# EAGLE library part AT91SAM9261 (library at91SAM9261)
32-bit ARM-based Microcontrollers Ultra low-power microcontroller based on the ARM926EJ-S processor. 16K byte data cache 16K byte instruction 210 MIPS ar 190MHz
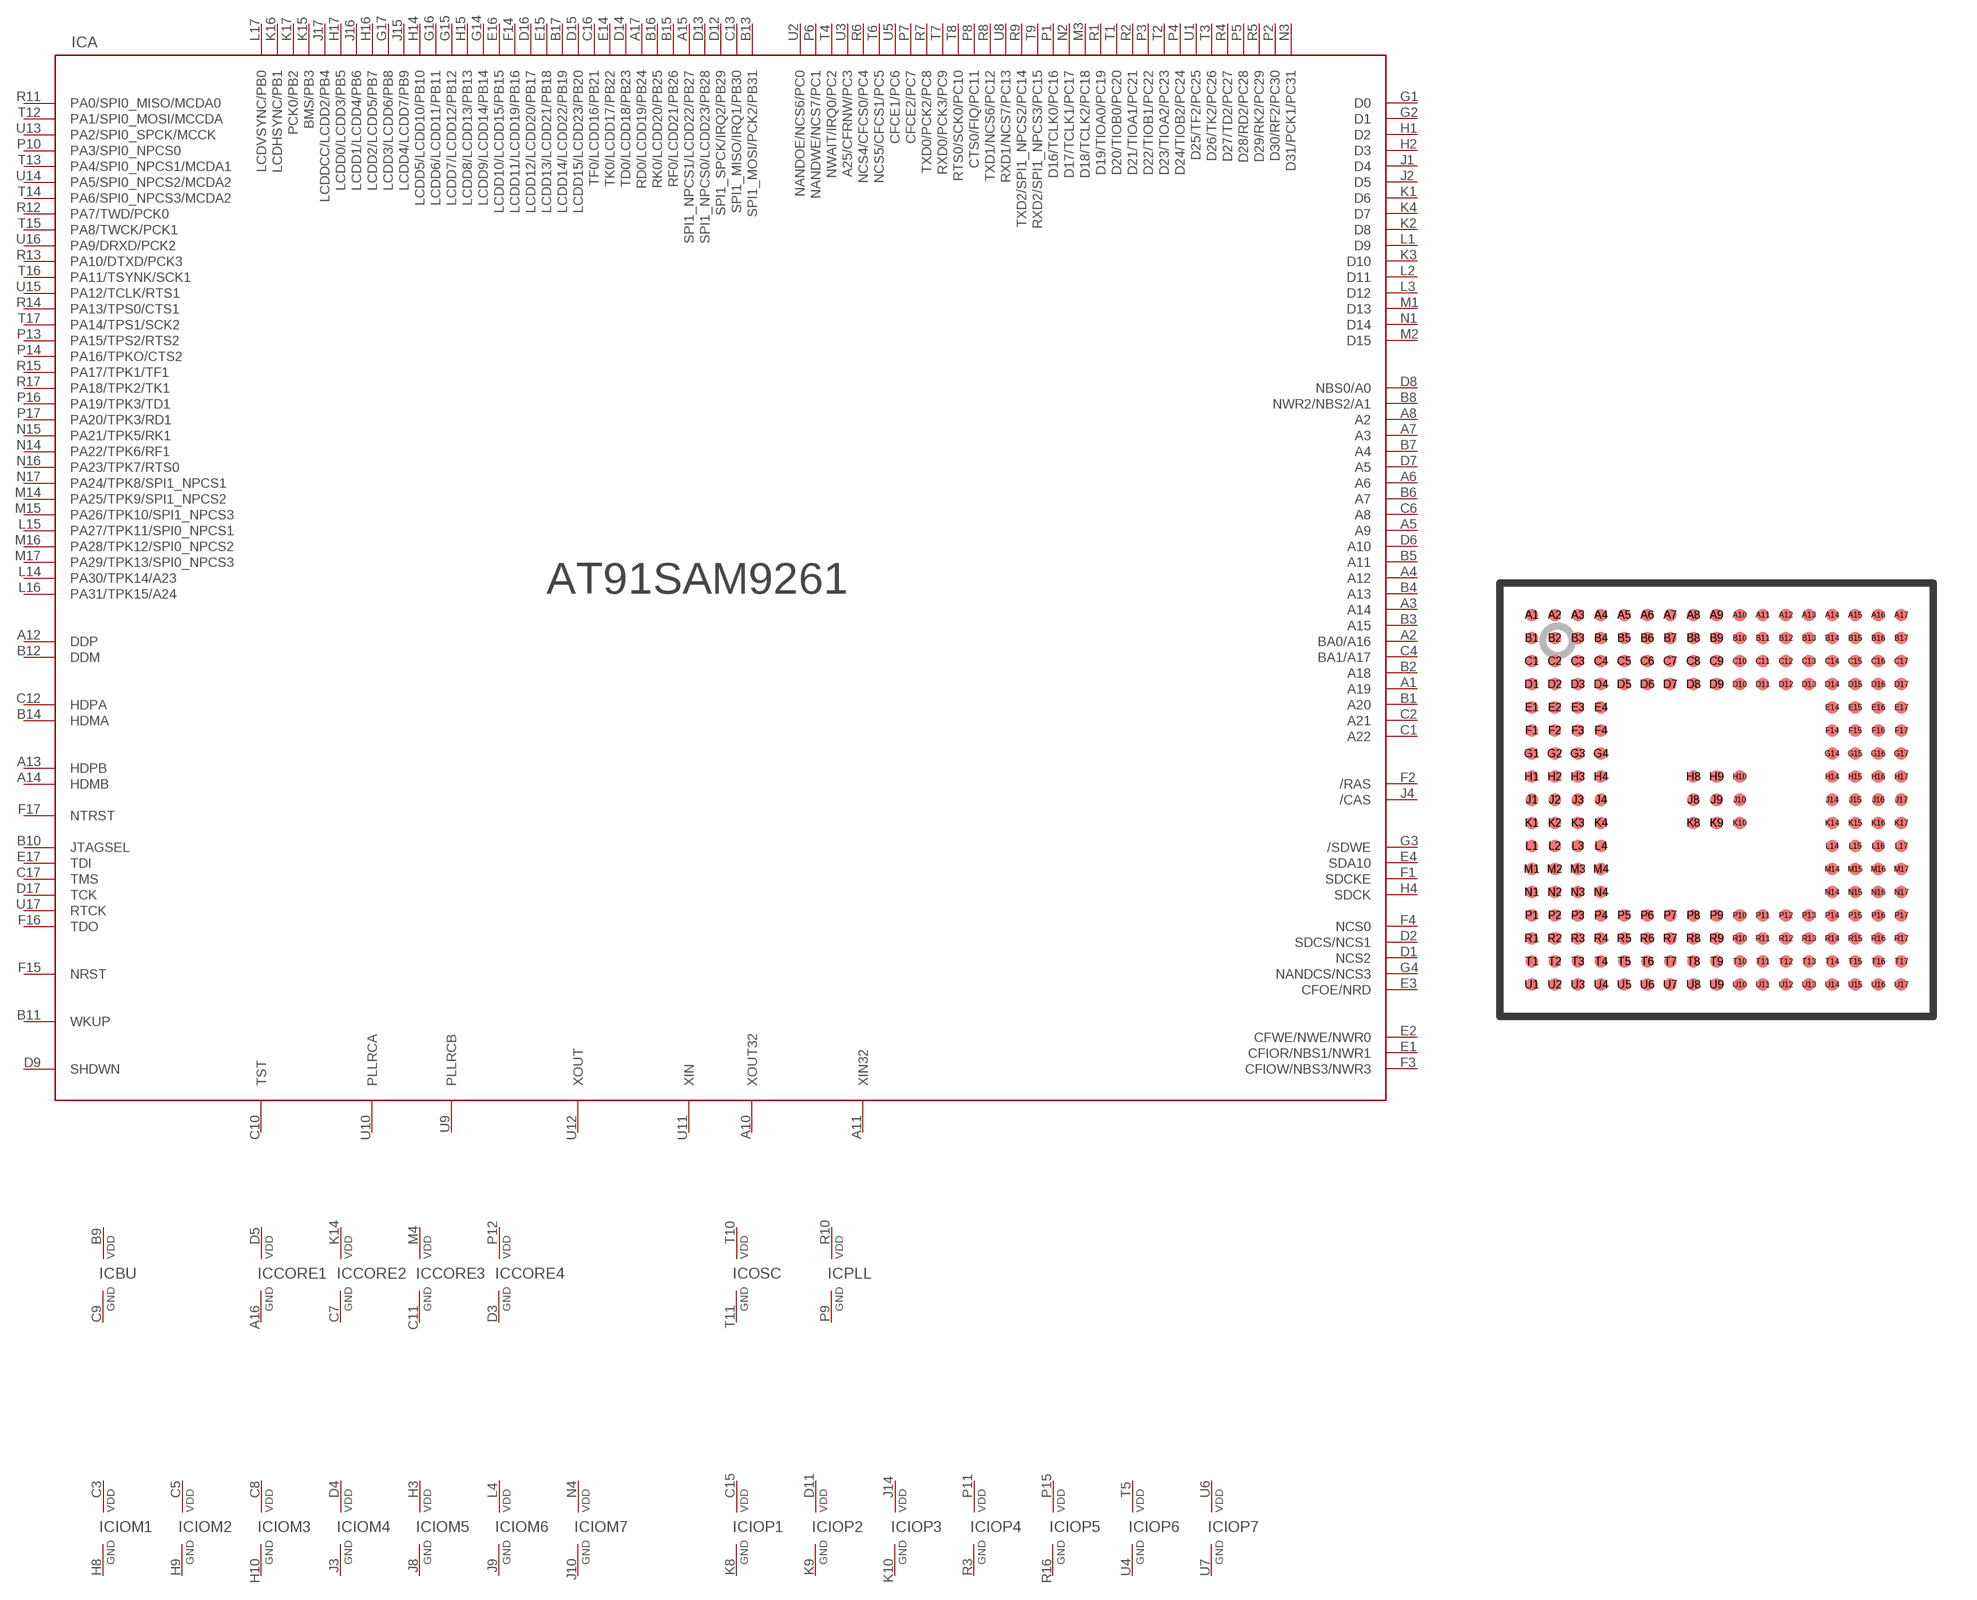
[diagram p0: symbol with the pads of LFBGA_217; footprint LFBGA_217]

Designator prefix IC; gates A=AT91SAM9261 CORE1=PWRVDDGND CORE2=PWRVDDGND CORE3=PWRVDDGND CORE4=PWRVDDGND IOM1=PWRVDDGND IOM2=PWRVDDGND IOM3=PWRVDDGND IOM4=PWRVDDGND IOM5=PWRVDDGND IOM6=PWRVDDGND IOM7=PWRVDDGND IOP1=PWRVDDGND IOP2=PWRVDDGND IOP3=PWRVDDGND IOP4=PWRVDDGND IOP5=PWRVDDGND IOP6=PWRVDDGND IOP7=PWRVDDGND BU=PWRVDDGND OSC=PWRVDDGND PLL=PWRVDDGND

## AT91SAM9261  [LFBGA_217]
A1  A:A19
A2  A:BA0/A16
A3  A:A14
A4  A:A12
A5  A:A9
A6  A:A6
A7  A:A3
A8  A:A2
A9  A:NC_A9  nc
A10  A:XOUT32  out
A11  A:XIN32  in
A12  A:DDP  pas
A13  A:HDPB  pas
A14  A:HDMB  pas
A15  A:SPI1_NPCS1/LCDD22/PB27
A16  CORE1:GND  pwr
A17  A:RD0/LCDD19/PB24
B1  A:A20
B2  A:A18
B3  A:A15
B4  A:A13
B5  A:A11
B6  A:A7
B7  A:A4
B8  A:NWR2/NBS2/A1
B9  BU:VDD  pwr
B10  A:JTAGSEL  in
B11  A:WKUP  in
B12  A:DDM  pas
B13  A:SPI1_MOSI/PCK2/PB31
B14  A:HDMA  pas
B15  A:RF0/LCDD21/PB26
B16  A:RK0/LCDD20/PB25
B17  A:LCDD14/LCDD22/PB19
C1  A:A22
C2  A:A21
C3  IOM1:VDD  pwr
C4  A:BA1/A17
C5  IOM2:VDD  pwr
C6  A:A8
C7  CORE2:GND  pwr
C8  IOM3:VDD  pwr
C9  BU:GND  pwr
C10  A:TST  in
C11  CORE3:GND  pwr
C12  A:HDPA  pas
C13  A:SPI1_MISO/IRQ1/PB30
C14  A:NC_C14  nc
C15  IOP1:VDD  pwr
C16  A:TF0/LCDD16/PB21
C17  A:TMS  in
D1  A:NCS2
D2  A:SDCS/NCS1
D3  CORE4:GND  pwr
D4  IOM4:VDD  pwr
D5  CORE1:VDD  pwr
D6  A:A10
D7  A:A5
D8  A:NBS0/A0
D9  A:SHDWN
D10  A:NC_D10  nc
D11  IOP2:VDD  pwr
D12  A:SPI1_SPCK/IRQ2/PB29
D13  A:SPI1_NPCS0/LCDD23/PB28
D14  A:TD0/LCDD18/PB23
D15  A:LCDD15/LCDD23/PB20
D16  A:LCDD12/LCDD20/PB17
D17  A:TCK  in
E1  A:CFIOR/NBS1/NWR1
E2  A:CFWE/NWE/NWR0
E3  A:CFOE/NRD
E4  A:SDA10
E14  A:TK0/LCDD17/PB22
E15  A:LCDD13/LCDD21/PB18
E16  A:LCDD10/LCDD15/PB15
E17  A:TDI  in
F1  A:SDCKE
F2  A:/RAS
F3  A:CFIOW/NBS3/NWR3
F4  A:NCS0
F14  A:LCDD11/LCDD19/PB16
F15  A:NRST
F16  A:TDO  out
F17  A:NTRST  in
G1  A:D0
G2  A:D1
G3  A:/SDWE
G4  A:NANDCS/NCS3
G14  A:LCDD9/LCDD14/PB14
G15  A:LCDD7/LCDD12/PB12
G16  A:LCDD6/LCDD11/PB11
G17  A:LCDD3/LCDD6/PB8
H1  A:D2
H2  A:D3
H3  IOM5:VDD  pwr
H4  A:SDCK
H8  IOM1:GND  pwr
H9  IOM2:GND  pwr
H10  IOM3:GND  pwr
H14  A:LCDD5/LCDD10/PB10
H15  A:LCDD8/LCDD13/PB13
H16  A:LCDD2/LCDD5/PB7
H17  A:LCDD0/LCDD3/PB5
J1  A:D4
J2  A:D5
J3  IOM4:GND  pwr
J4  A:/CAS
J8  IOM5:GND  pwr
J9  IOM6:GND  pwr
J10  IOM7:GND  pwr
J14  IOP3:VDD  pwr
J15  A:LCDD4/LCDD7/PB9
J16  A:LCDD1/LCDD4/PB6
J17  A:LCDDCC/LCDD2/PB4
K1  A:D6
K2  A:D8
K3  A:D10
K4  A:D7
K8  IOP1:GND  pwr
K9  IOP2:GND  pwr
K10  IOP3:GND  pwr
K14  CORE2:VDD  pwr
K15  A:BMS/PB3
K16  A:LCDHSYNC/PB1
K17  A:PCK0/PB2
L1  A:D9
L2  A:D11
L3  A:D12
L4  IOM6:VDD  pwr
L14  A:PA30/TPK14/A23
L15  A:PA27/TPK11/SPI0_NPCS1
L16  A:PA31/TPK15/A24
L17  A:LCDVSYNC/PB0
M1  A:D13
M2  A:D15
M3  A:D18/TCLK2/PC18
M4  CORE3:VDD  pwr
M14  A:PA25/TPK9/SPI1_NPCS2
M15  A:PA26/TPK10/SPI1_NPCS3
M16  A:PA28/TPK12/SPI0_NPCS2
M17  A:PA29/TPK13/SPI0_NPCS3
N1  A:D14
N2  A:D17/TCLK1/PC17
N3  A:D31/PCK1/PC31
N4  IOM7:VDD  pwr
N14  A:PA22/TPK6/RF1
N15  A:PA21/TPK5/RK1
N16  A:PA23/TPK7/RTS0
N17  A:PA24/TPK8/SPI1_NPCS1
P1  A:D16/TCLK0/PC16
P2  A:D30/RF2/PC30
P3  A:D22/TIOB1/PC22
P4  A:D24/TIOB2/PC24
P5  A:D28/RD2/PC28
P6  A:NANDWE/NCS7/PC1
P7  A:CFCE2/PC7
P8  A:CTS0/FIQ/PC11
P9  PLL:GND  pwr
P10  A:PA3/SPI0_NPCS0
P11  IOP4:VDD  pwr
P12  CORE4:VDD  pwr
P13  A:PA15/TPS2/RTS2
P14  A:PA16/TPKO/CTS2
P15  IOP5:VDD  pwr
P16  A:PA19/TPK3/TD1
P17  A:PA20/TPK3/RD1
R1  A:D19/TIOA0/PC19
R2  A:D21/TIOA1/PC21
R3  IOP4:GND  pwr
R4  A:D27/TD2/PC27
R5  A:D29/RK2/PC29
R6  A:NCS4/CFCS0/PC4
R7  A:TXD0/PCK2/PC8
R8  A:TXD1/NCS6/PC12
R9  A:TXD2/SPI1_NPCS2/PC14
R10  PLL:VDD  pwr
R11  A:PA0/SPI0_MISO/MCDA0
R12  A:PA7/TWD/PCK0
R13  A:PA10/DTXD/PCK3
R14  A:PA13/TPS0/CTS1
R15  A:PA17/TPK1/TF1
R16  IOP5:GND  pwr
R17  A:PA18/TPK2/TK1
T1  A:D20/TIOB0/PC20
T2  A:D23/TIOA2/PC23
T3  A:D26/TK2/PC26
T4  A:NWAIT/IRQ0/PC2
T5  IOP6:VDD  pwr
T6  A:NCS5/CFCS1/PC5
T7  A:RXD0/PCK3/PC9
T8  A:RTS0/SCK0/PC10
T9  A:RXD2/SPI1_NPCS3/PC15
T10  OSC:VDD  pwr
T11  OSC:GND  pwr
T12  A:PA1/SPI0_MOSI/MCCDA
T13  A:PA4/SPI0_NPCS1/MCDA1
T14  A:PA6/SPI0_NPCS3/MCDA2
T15  A:PA8/TWCK/PCK1
T16  A:PA11/TSYNK/SCK1
T17  A:PA14/TPS1/SCK2
U1  A:D25/TF2/PC25
U2  A:NANDOE/NCS6/PC0
U3  A:A25/CFRNW/PC3
U4  IOP6:GND  pwr
U5  A:CFCE1/PC6
U6  IOP7:VDD  pwr
U7  IOP7:GND  pwr
U8  A:RXD1/NCS7/PC13
U9  A:PLLRCB  in
U10  A:PLLRCA  in
U11  A:XIN  in
U12  A:XOUT  out
U13  A:PA2/SPI0_SPCK/MCCK
U14  A:PA5/SPI0_NPCS2/MCDA2
U15  A:PA12/TCLK/RTS1
U16  A:PA9/DRXD/PCK2
U17  A:RTCK  out

## Footprint LFBGA_217 (pad centres in mm)
217-balls LFBGA Package solder mask defined
smd 0.43 x 0.43: A1 -6.4,6.4; A2 -5.6,6.4; A3 -4.8,6.4; A4 -4,6.4; A5 -3.2,6.4; A6 -2.4,6.4; A7 -1.6,6.4; A8 -0.8,6.4; A9 0,6.4; A10 0.8,6.4; A11 1.6,6.4; A12 2.4,6.4; A13 3.2,6.4; A14 4,6.4; A15 4.8,6.4; A16 5.6,6.4; A17 6.4,6.4; B1 -6.4,5.6; B2 -5.6,5.6; B3 -4.8,5.6; B4 -4,5.6; B5 -3.2,5.6; B6 -2.4,5.6; B7 -1.6,5.6; B8 -0.8,5.6; B9 0,5.6; B10 0.8,5.6; B11 1.6,5.6; B12 2.4,5.6; B13 3.2,5.6; B14 4,5.6; B15 4.8,5.6; B16 5.6,5.6; B17 6.4,5.6; C1 -6.4,4.8; C2 -5.6,4.8; C3 -4.8,4.8; C4 -4,4.8; C5 -3.2,4.8; C6 -2.4,4.8; C7 -1.6,4.8; C8 -0.8,4.8; C9 0,4.8; C10 0.8,4.8; C11 1.6,4.8; C12 2.4,4.8; C13 3.2,4.8; C14 4,4.8; C15 4.8,4.8; C16 5.6,4.8; C17 6.4,4.8; D1 -6.4,4; D2 -5.6,4; D3 -4.8,4; D4 -4,4; D5 -3.2,4; D6 -2.4,4; D7 -1.6,4; D8 -0.8,4; D9 0,4; D10 0.8,4; D11 1.6,4; D12 2.4,4; D13 3.2,4; D14 4,4; D15 4.8,4; D16 5.6,4; D17 6.4,4; E1 -6.4,3.2; E2 -5.6,3.2; E3 -4.8,3.2; E4 -4,3.2; E14 4,3.2; E15 4.8,3.2; E16 5.6,3.2; E17 6.4,3.2; F1 -6.4,2.4; F2 -5.6,2.4; F3 -4.8,2.4; F4 -4,2.4; F14 4,2.4; F15 4.8,2.4; F16 5.6,2.4; F17 6.4,2.4; G1 -6.4,1.6; G2 -5.6,1.6; G3 -4.8,1.6; G4 -4,1.6; G14 4,1.6; G15 4.8,1.6; G16 5.6,1.6; G17 6.4,1.6; H1 -6.4,0.8; H2 -5.6,0.8; H3 -4.8,0.8; H4 -4,0.8; H8 -0.8,0.8; H9 0,0.8; H10 0.8,0.8; H14 4,0.8; H15 4.8,0.8; H16 5.6,0.8; H17 6.4,0.8; J1 -6.4,0; J2 -5.6,0; J3 -4.8,0; J4 -4,0; J8 -0.8,0; J9 0,0; J10 0.8,0; J14 4,0; J15 4.8,0; J16 5.6,0; J17 6.4,0; K1 -6.4,-0.8; K2 -5.6,-0.8; K3 -4.8,-0.8; K4 -4,-0.8; K8 -0.8,-0.8; K9 0,-0.8; K10 0.8,-0.8; K14 4,-0.8; K15 4.8,-0.8; K16 5.6,-0.8; K17 6.4,-0.8; L1 -6.4,-1.6; L2 -5.6,-1.6; L3 -4.8,-1.6; L4 -4,-1.6; L14 4,-1.6; L15 4.8,-1.6; L16 5.6,-1.6; L17 6.4,-1.6; M1 -6.4,-2.4; M2 -5.6,-2.4; M3 -4.8,-2.4; M4 -4,-2.4; M14 4,-2.4; M15 4.8,-2.4; M16 5.6,-2.4; M17 6.4,-2.4; N1 -6.4,-3.2; N2 -5.6,-3.2; N3 -4.8,-3.2; N4 -4,-3.2; N14 4,-3.2; N15 4.8,-3.2; N16 5.6,-3.2; N17 6.4,-3.2; P1 -6.4,-4; P2 -5.6,-4; P3 -4.8,-4; P4 -4,-4; P5 -3.2,-4; P6 -2.4,-4; P7 -1.6,-4; P8 -0.8,-4; P9 0,-4; P10 0.8,-4; P11 1.6,-4; P12 2.4,-4; P13 3.2,-4; P14 4,-4; P15 4.8,-4; P16 5.6,-4; P17 6.4,-4; R1 -6.4,-4.8; R2 -5.6,-4.8; R3 -4.8,-4.8; R4 -4,-4.8; R5 -3.2,-4.8; R6 -2.4,-4.8; R7 -1.6,-4.8; R8 -0.8,-4.8; R9 0,-4.8; R10 0.8,-4.8; R11 1.6,-4.8; R12 2.4,-4.8; R13 3.2,-4.8; R14 4,-4.8; R15 4.8,-4.8; R16 5.6,-4.8; R17 6.4,-4.8; T1 -6.4,-5.6; T2 -5.6,-5.6; T3 -4.8,-5.6; T4 -4,-5.6; T5 -3.2,-5.6; T6 -2.4,-5.6; T7 -1.6,-5.6; T8 -0.8,-5.6; T9 0,-5.6; T10 0.8,-5.6; T11 1.6,-5.6; T12 2.4,-5.6; T13 3.2,-5.6; T14 4,-5.6; T15 4.8,-5.6; T16 5.6,-5.6; T17 6.4,-5.6; U1 -6.4,-6.4; U2 -5.6,-6.4; U3 -4.8,-6.4; U4 -4,-6.4; U5 -3.2,-6.4; U6 -2.4,-6.4; U7 -1.6,-6.4; U8 -0.8,-6.4; U9 0,-6.4; U10 0.8,-6.4; U11 1.6,-6.4; U12 2.4,-6.4; U13 3.2,-6.4; U14 4,-6.4; U15 4.8,-6.4; U16 5.6,-6.4; U17 6.4,-6.4